# Altium schematic symbol library PCB_Project.SCHLIB: 22 symbols
Pins are listed as number, name and electrical type; pins without a type are passive.

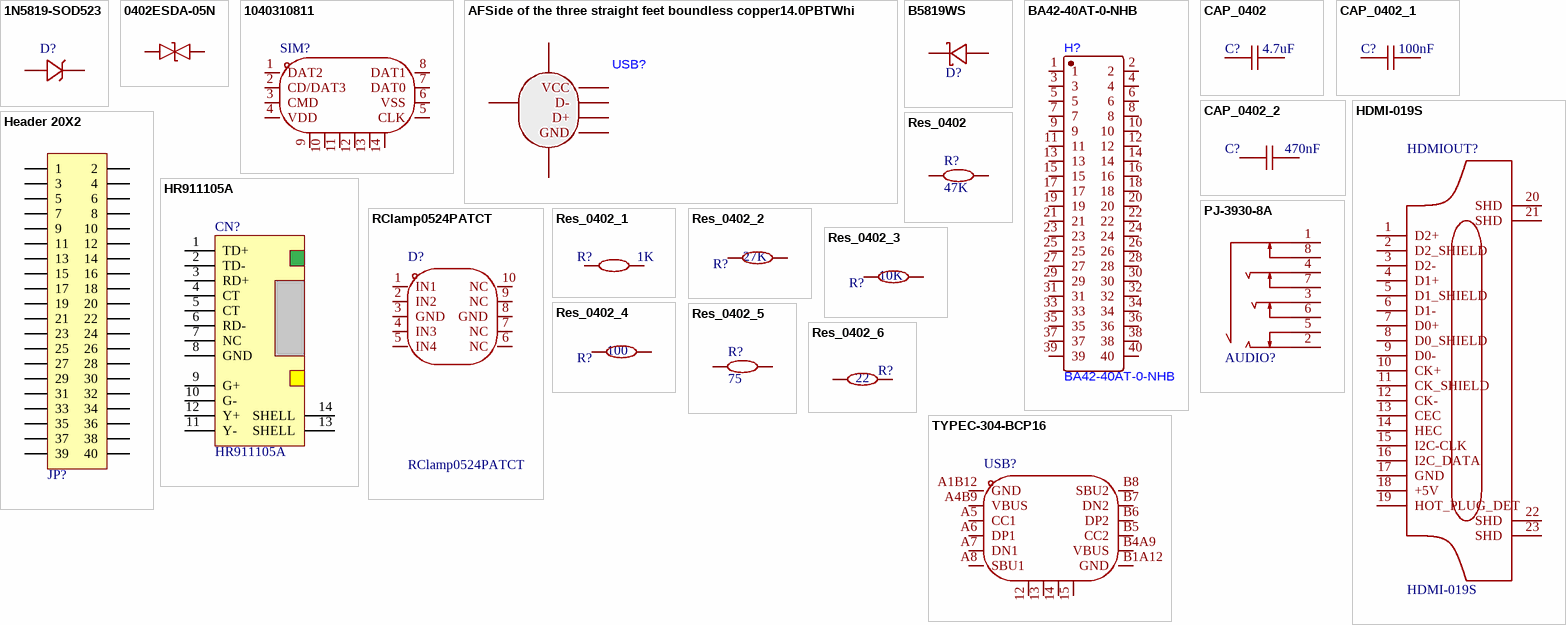
[diagram p0: symbols 1N5819-SOD523 to TYPEC-304-BCP16]

## 1N5819-SOD523
designator D?
Symbol: 1N5819-SOD523; Add into BOM: yes; Device: 1N5819-SOD523; LCSC Part Name: 1N5819-SOD523; Supplier Part: C9900001291; Manufacturer Part: 1N5819-SOD523; Supplier Footprint: SOD-523_L1.2-W0.8-LS1.60; JLCPCB Part Class: Extended Part; Supplier: LCSC; Convert to PCB: yes
footprint SOD-523_L1.2-W0.8-LS1.6-FD
3D model SOD-523_L1.2-W0.8-H0.7-LS1.6
pins: 1 A, 2 K

## 0402ESDA-05N
designator D?
Manufacturer: BORN(伯恩半导体); Symbol: 0402ESDA-05N; Add into BOM: yes; polarity: 双向; Reverse Stand-Off Voltage (Vrwm): 5V; Maximum Clamping Voltage: 50V; Type: ESD; Device: 0402ESDA-05N; LCSC Part Name: 双向ESD; Supplier Part: C316049; Manufacturer Part: 0402ESDA-05N; Supplier Footprint: 0402; JLCPCB Part Class: Extended Part; Datasheet: https://atta.szlcsc.com/upload/public/pdf/source/20181026/C316051_3197CA7AF3730883CA62970815D4F79F.pdf; Supplier: LCSC; Convert to PCB: yes
footprint D0402
3D model D0402_L1.0-W0.5-H0.5
pins: 1, 2

## 1040310811
designator SIM?
Manufacturer: MOLEX; Symbol: 1040310811; Add into BOM: yes; Card Connection Mode: 拔插式; Card Type: MicroSD卡(TF卡); Connector Type: 卡座; Maximum Body Height: 1.42mm; Device: 1040310811; LCSC Part Name: 拔插式 MicroSD卡(TF卡) 卡座; Supplier Part: C585350; Manufacturer Part: 1040310811; Supplier Footprint: SMD; JLCPCB Part Class: Extended Part; Datasheet: https://atta.szlcsc.com/upload/public/pdf/source/20201117/C585350_D1F0B30BD23514449186B2E50ACE8BBF.pdf; Supplier: LCSC; Convert to PCB: yes; Operating Temperature Range: -
footprint SIM-SMD_8P-1040310811
3D model SIM-SMD_8P-1040310811
pins: 1 DAT2, 2 CD/DAT3, 3 CMD, 4 VDD, 5 CLK, 6 VSS, 7 DAT0, 8 DAT1, 9, 10, 11, 12, 13, 14

## AFSide of the three straight feet boundless copper14.0PBTWhite plastic90degree
designator USB?
footprint USB-A-TH_4P-P1.40-V-F-C39416
pins: 1 VCC, 2 D-, 3 D+, 4 GND, 5, 6, 7

## B5819WS
designator D?
Manufacturer: CJ（江苏长电/长晶）; Symbol: B5819WS_C22624; Device: B5819WS; Add into BOM: yes; Reverse Voltage (Vr): 40V; Average Rectified Current (Io): 1A; Forward Voltage (Vf@If): 600mV@1A; LCSC Part Name: 40V 1A 600mV@1A; Supplier Part: C22624; Manufacturer Part: B5819WS; Supplier Footprint: SOD-323; JLCPCB Part Class: Extended Part; Datasheet: https://atta.szlcsc.com/upload/public/pdf/source/20170919/C22624_1505799673448977596.pdf; Supplier: LCSC; Convert to PCB: yes
footprint SOD-323_L1.8-W1.3-LS2.5-NSK
3D model SOD-323_L1.7-W1.3-H1.1-LS2.5
pins: 1 K, 2 A

## BA42-40AT-0-NHB
designator H?
footprint CONN-SMD_40P-P0.80_10144517-042802LF
pins: 1, 2, 3, 4, 5, 6, 7, 8, 9, 10, 11, 12, 13, 14, 15, 16, 17, 18, 19, 20, 21, 22, 23, 24, 25, 26, 27, 28, 29, 30, 31, 32, 33, 34, 35, 36, 37, 38, 39, 40

## CAP_0402
designator C?  value 4.7uF
Symbol: CapAcitance; Device: CAP_0402; Convert to PCB: yes; Add into BOM: yes; Supplier Footprint: 0402
footprint C0402
3D model C0402_L1.0-W0.5-H0.5
pins: 1, 2

## CAP_0402_1
designator C?  value 100nF
Symbol: CapAcitance; Device: CAP_0402; Convert to PCB: yes; Add into BOM: yes; Supplier Footprint: 0402
footprint C0402
3D model C0402_L1.0-W0.5-H0.5
pins: 1, 2

## CAP_0402_2
designator C?  value 470nF
Symbol: CapAcitance; Device: CAP_0402; Convert to PCB: yes; Add into BOM: yes; Supplier Footprint: 0402
footprint C0402
3D model C0402_L1.0-W0.5-H0.5
pins: 1, 2

## HDMI-019S
designator HDMIOUT?  Manufacturer Part: HDMI-019S
Manufacturer: SOFNG(硕方); Add into BOM: yes; Connector Type: HDMI; Gender: 母; Current Rating (Max): 500mA; Symbol: HDMI-019S; Device: HDMI-019S; LCSC Part Name: HDMI 母 P数:19; Supplier Part: C111617; Supplier Footprint: SMD; JLCPCB Part Class: Extended Part; Datasheet: https://atta.szlcsc.com/upload/public/pdf/source/20200911/C111617_84DD1BD35B9EB8A28224A63520745D0A.pdf; Supplier: LCSC; Convert to PCB: yes; Number of Pins: 19; Number of Rows: -; Mounting Style: 卧贴; Operating Temperature Range: -25~+75
footprint HDMI-SMD_HDMI-019S
3D model HDMI-SMD_HDMI-019S
pins: 1 D2+, 2 D2_SHIELD, 3 D2-, 4 D1+, 5 D1_SHIELD, 6 D1-, 7 D0+, 8 D0_SHIELD, 9 D0-, 10 CK+, 11 CK_SHIELD, 12 CK-, 13 CEC, 14 HEC, 15 I2C-CLK, 16 I2C_DATA, 17 GND, 18 +5V, 19 HOT_PLUG_DET, 20 SHD, 21 SHD, 22 SHD, 23 SHD

## Header 20X2
designator JP?, comment Header 2X11  (value not drawn)
20*2P接插件; 联系卖家，免费查找封装: 唯一出售店铺网址https://shop463601444.taobao.com; 封装库来自淘宝卖家ID：黄晶宝石: 其他店铺购入均为盗版封装库，请立即申请退款，本店现金奖励50~200元; BOM名称: 20*2P接插件
footprint IDC2.54-LI-2x20P (40P简易牛角座)
footprint HDR2.54-LI-2x20P (双排排针，20x2脚)
footprint HDR2.54-M-LS-2x20P (脚距：2.54mm，贴片双排母)
footprint HDR2.54-WI-2x20P (双排弯脚排针，20x2脚)
pins: 1, 2, 3, 4, 5, 6, 7, 8, 9, 10, 11, 12, 13, 14, 15, 16, 17, 18, 19, 20, 21, 22, 23, 24, 25, 26, 27, 28, 29, 30, 31, 32, 33, 34, 35, 36, 37, 38, 39, 40

## HR911105A
designator CN?
带灯以太网接口; 当前库版本V2023.10.25 @淘宝卖家:黄晶宝石: 最新版本发布https://item.taobao.com/item.htm?id=566775463719
footprint RJ8-HR911105A (联系卖家免费查找封装)
pins: 1 TD+, 2 TD-, 3 RD+, 4 CT, 5 CT, 6 RD-, 7 NC, 8 GND, 9 G+, 10 G-, 11 Y-, 12 Y+, 13 SHELL, 14 SHELL

## PJ-3930-8A
designator AUDIO?
Manufacturer: 韩国韩荣; Symbol: PJ-3930-8A; Add into BOM: yes; Connector Type: 3.5mm耳机座; Current Rating (Max): 500mA; Voltage Rating (Max): 30V; Device: PJ-3930-8A; LCSC Part Name: 3.5mm耳机座; Supplier Part: C145811; Manufacturer Part: PJ-3930-8A; Supplier Footprint: 插件; JLCPCB Part Class: Extended Part; Datasheet: https://atta.szlcsc.com/upload/public/pdf/source/20191118/C145811_16CC6EB1D99F73F69A2815454A66484C.pdf; Supplier: LCSC; Convert to PCB: yes
footprint AUDIO-TH_PJ-3930-8A
3D model AUDIO-TH_PJ-3930-8A
pins: 1, 2, 3, 4, 5, 6, 7, 8

## RClamp0524PATCT
designator D?  Manufacturer Part: RClamp0524PATCT
Manufacturer: SEMTECH; Add into BOM: yes; Symbol: RClamp0524PATCT; Device: RClamp0524PATCT; LCSC Part Name: RClamp0524PATCT; Supplier Part: C40960; Supplier Footprint: SLP2510P8; JLCPCB Part Class: Extended Part; Datasheet: https://atta.szlcsc.com/upload/public/pdf/source/20150124/1457707260739.pdf; Supplier: LCSC; Convert to PCB: yes
footprint SLP2510P8_L2.5-W1.0-P0.50-BL
3D model SLP2510-8P_L2.5-W1.0-H0.5
pins: 1 IN1, 2 IN2, 3 GND, 4 IN3, 5 IN4, 6 NC, 7 NC, 8 GND, 9 NC, 10 NC

## Res_0402
designator R?  value 47K
Symbol: 电阻; Device: Res_0402; Convert to PCB: yes; Add into BOM: yes; Supplier Footprint: 0402
footprint R0402-NSK_2
3D model R0402_L1.0-W0.5-H0.4
pins: 1, 2

## Res_0402_1
designator R?  value 1K
Symbol: 电阻; Device: Res_0402; Convert to PCB: yes; Add into BOM: yes; Supplier Footprint: 0402
footprint R0402-NSK_2
3D model R0402_L1.0-W0.5-H0.4
pins: 1, 2

## Res_0402_2
designator R?  value 27K
Symbol: 电阻; Device: Res_0402; Convert to PCB: yes; Add into BOM: yes; Supplier Footprint: 0402
footprint R0402-NSK_2
3D model R0402_L1.0-W0.5-H0.4
pins: 1, 2

## Res_0402_3
designator R?  value 10K
Symbol: 电阻; Device: Res_0402; Convert to PCB: yes; Add into BOM: yes; Supplier Footprint: 0402
footprint R0402-NSK_2
3D model R0402_L1.0-W0.5-H0.4
pins: 1, 2

## Res_0402_4
designator R?  value 100
Symbol: 电阻; Device: Res_0402; Convert to PCB: yes; Add into BOM: yes; Supplier Footprint: 0402
footprint R0402-NSK_2
3D model R0402_L1.0-W0.5-H0.4
pins: 1, 2

## Res_0402_5
designator R?  value 75
Symbol: 电阻; Device: Res_0402; Convert to PCB: yes; Add into BOM: yes; Supplier Footprint: 0402
footprint R0402-NSK_2
3D model R0402_L1.0-W0.5-H0.4
pins: 1, 2

## Res_0402_6
designator R?  value 22
Symbol: 电阻; Device: Res_0402; Convert to PCB: yes; Add into BOM: yes; Supplier Footprint: 0402
footprint R0402-NSK_2
3D model R0402_L1.0-W0.5-H0.4
pins: 1, 2

## TYPEC-304-BCP16
designator USB?
Manufacturer: XUNPU; Symbol: TYPEC-304-BCP16; Pin Type: IN; Add into BOM: yes; Device: TYPEC-304-BCP16; Supplier: LCSC; Supplier Part: C720629; Manufacturer Part: TYPEC-304-BCP16; JLCPCB Part Class: Extended Part; Convert to PCB: yes
footprint USB-C-SMD_TYPEC-304-BCP16-1
3D model USB-C-SMD_TYPEC-304-BCP16
pins: 12 1, 13 2, 14 3, 15 4, A1B12 GND, A4B9 VBUS, A5 CC1, A6 DP1, A7 DN1, A8 SBU1, B1A12 GND, B4A9 VBUS, B5 CC2, B6 DP2, B7 DN2, B8 SBU2